# EAGLE library part STM32F417VGT6 (library gator)
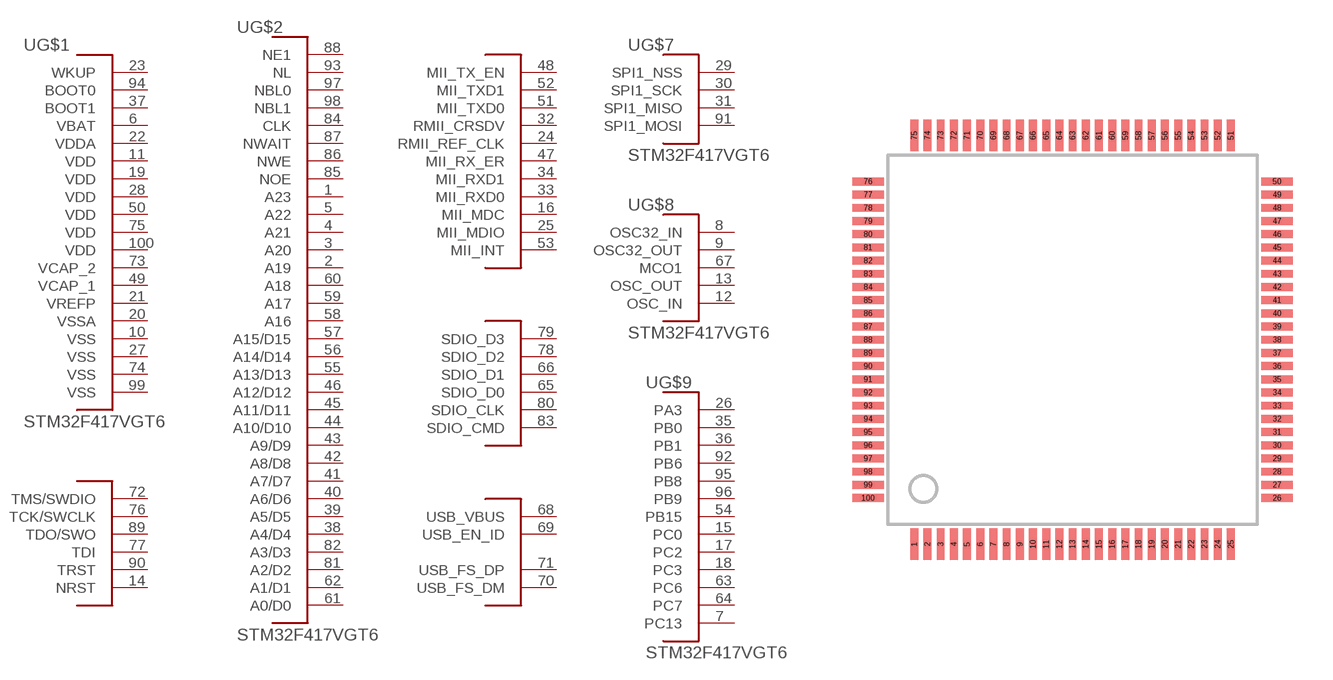
[diagram p1: symbol with the pads of LQFP-100; footprint LQFP-100]

Designator prefix -; gates G$1=STM32F417_PWR G$2=STM32F417_FSMC G$3=STM32F417_ETH G$4=STM32F417_SDIO G$5=STM32F417_USBFS G$6=STM32F417_JTAG G$7=STM32F417_SPI1 G$8=STM32F417_CLK G$9=STM32F417_GPIO

## STM32F417VGT6  [LQFP-100]
1  G$2:A23
2  G$2:A19
3  G$2:A20
4  G$2:A21
5  G$2:A22
6  G$1:VBAT  pwr
7  G$9:PC13
8  G$8:OSC32_IN
9  G$8:OSC32_OUT
10  G$1:VSS  pwr
11  G$1:VDD  pwr
12  G$8:OSC_IN
13  G$8:OSC_OUT
14  G$6:NRST
15  G$9:PC0
16  G$3:MII_MDC
17  G$9:PC2
18  G$9:PC3
19  G$1:VDD  pwr
20  G$1:VSSA  pwr
21  G$1:VREFP  pwr
22  G$1:VDDA  pwr
23  G$1:WKUP
24  G$3:RMII_REF_CLK
25  G$3:MII_MDIO
26  G$9:PA3
27  G$1:VSS  pwr
28  G$1:VDD  pwr
29  G$7:SPI1_NSS
30  G$7:SPI1_SCK
31  G$7:SPI1_MISO
32  G$3:RMII_CRSDV
33  G$3:MII_RXD0
34  G$3:MII_RXD1
35  G$9:PB0
36  G$9:PB1
37  G$1:BOOT1
38  G$2:A4/D4
39  G$2:A5/D5
40  G$2:A6/D6
41  G$2:A7/D7
42  G$2:A8/D8
43  G$2:A9/D9
44  G$2:A10/D10
45  G$2:A11/D11
46  G$2:A12/D12
47  G$3:MII_RX_ER
48  G$3:MII_TX_EN
49  G$1:VCAP_1  pwr
50  G$1:VDD  pwr
51  G$3:MII_TXD0
52  G$3:MII_TXD1
53  G$3:MII_INT
54  G$9:PB15
55  G$2:A13/D13
56  G$2:A14/D14
57  G$2:A15/D15
58  G$2:A16
59  G$2:A17
60  G$2:A18
61  G$2:A0/D0
62  G$2:A1/D1
63  G$9:PC6
64  G$9:PC7
65  G$4:SDIO_D0
66  G$4:SDIO_D1
67  G$8:MCO1
68  G$5:USB_VBUS
69  G$5:USB_EN_ID
70  G$5:USB_FS_DM
71  G$5:USB_FS_DP
72  G$6:TMS/SWDIO
73  G$1:VCAP_2  pwr
74  G$1:VSS  pwr
75  G$1:VDD  pwr
76  G$6:TCK/SWCLK
77  G$6:TDI
78  G$4:SDIO_D2
79  G$4:SDIO_D3
80  G$4:SDIO_CLK
81  G$2:A2/D2
82  G$2:A3/D3
83  G$4:SDIO_CMD
84  G$2:CLK
85  G$2:NOE
86  G$2:NWE
87  G$2:NWAIT
88  G$2:NE1
89  G$6:TDO/SWO
90  G$6:TRST
91  G$7:SPI1_MOSI
92  G$9:PB6
93  G$2:NL
94  G$1:BOOT0
95  G$9:PB8
96  G$9:PB9
97  G$2:NBL0
98  G$2:NBL1
99  G$1:VSS  pwr
100  G$1:VDD  pwr

## Footprint LQFP-100 (pad centres in mm)
LQFP-100 100-pin, 14x14mm, 0.5mm pitch, SMD package Used for STM32F417VGT6
smd 0.3 x 1.2: 1 1.15,-0.6; 2 1.65,-0.6; 3 2.15,-0.6; 4 2.65,-0.6; 5 3.15,-0.6; 6 3.65,-0.6; 7 4.15,-0.6; 8 4.65,-0.6; 9 5.15,-0.6; 10 5.65,-0.6; 11 6.15,-0.6; 12 6.65,-0.6; 13 7.15,-0.6; 14 7.65,-0.6; 15 8.15,-0.6; 16 8.65,-0.6; 17 9.15,-0.6; 18 9.65,-0.6; 19 10.15,-0.6; 20 10.65,-0.6; 21 11.15,-0.6; 22 11.65,-0.6; 23 12.15,-0.6; 24 12.65,-0.6; 25 13.15,-0.6; 51 13.15,14.9; 52 12.65,14.9; 53 12.15,14.9; 54 11.65,14.9; 55 11.15,14.9; 56 10.65,14.9; 57 10.15,14.9; 58 9.65,14.9; 59 9.15,14.9; 60 8.65,14.9; 61 8.15,14.9; 62 7.65,14.9; 63 7.15,14.9; 64 6.65,14.9; 65 6.15,14.9; 66 5.65,14.9; 67 5.15,14.9; 68 4.65,14.9; 69 4.15,14.9; 70 3.65,14.9; 71 3.15,14.9; 72 2.65,14.9; 73 2.15,14.9; 74 1.65,14.9; 75 1.15,14.9
smd 1.2 x 0.3: 26 14.9,1.15; 27 14.9,1.65; 28 14.9,2.15; 29 14.9,2.65; 30 14.9,3.15; 31 14.9,3.65; 32 14.9,4.15; 33 14.9,4.65; 34 14.9,5.15; 35 14.9,5.65; 36 14.9,6.15; 37 14.9,6.65; 38 14.9,7.15; 39 14.9,7.65; 40 14.9,8.15; 41 14.9,8.65; 42 14.9,9.15; 43 14.9,9.65; 44 14.9,10.15; 45 14.9,10.65; 46 14.9,11.15; 47 14.9,11.65; 48 14.9,12.15; 49 14.9,12.65; 50 14.9,13.15; 76 -0.6,13.15; 77 -0.6,12.65; 78 -0.6,12.15; 79 -0.6,11.65; 80 -0.6,11.15; 81 -0.6,10.65; 82 -0.6,10.15; 83 -0.6,9.65; 84 -0.6,9.15; 85 -0.6,8.65; 86 -0.6,8.15; 87 -0.6,7.65; 88 -0.6,7.15; 89 -0.6,6.65; 90 -0.6,6.15; 91 -0.6,5.65; 92 -0.6,5.15; 93 -0.6,4.65; 94 -0.6,4.15; 95 -0.6,3.65; 96 -0.6,3.15; 97 -0.6,2.65; 98 -0.6,2.15; 99 -0.6,1.65; 100 -0.6,1.15